# Altium footprint library PCIE.PcbLib: 2 footprints
Each footprint in its own frame and in the unit in brackets; x right, y up, seen from the top. Pads: shape width x height; smd on the part's side, far side on the other; paste and mask are expansions set on the pad; w line width, h text height; cw(c..) or ccw(c..) is an arc to the next point about the centre after c.
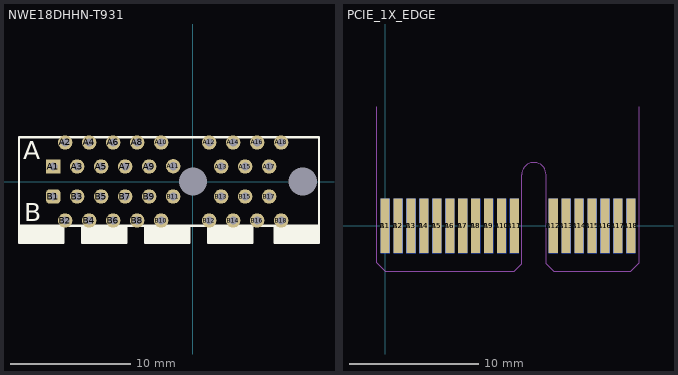
[diagram p0: the footprints below, top view; thin cyan lines are the x and y axes]

## NWE18DHHN-T931 [mm] "Sullins PCIe 1x through hole"
pads (38):
  rect 1.2x1.2 hole 0.7: A1(-11.65,1.25)
  round 1.2 hole 0.7: A2(-10.65,3.25) A3(-9.65,1.25) A4(-8.65,3.25) A5(-7.65,1.25) A6(-6.65,3.25) A7(-5.65,1.25) A8(-4.65,3.25) A9(-3.65,1.25) A10(-2.65,3.25) A11(-1.65,1.27) A12(1.35,3.25) A13(2.35,1.25) A14(3.35,3.25) A15(4.35,1.25) A16(5.35,3.25) A17(6.35,1.25) A18(7.35,3.25) B2(-10.65,-3.25) B3(-9.65,-1.25) B4(-8.65,-3.25) B5(-7.65,-1.25) B6(-6.65,-3.25) B7(-5.65,-1.25) B8(-4.65,-3.25) B9(-3.65,-1.25) B10(-2.65,-3.25) B11(-1.65,-1.25) B12(1.35,-3.25) B13(2.35,-1.25) B14(3.35,-3.25) B15(4.35,-1.25) B16(5.35,-3.25) B17(6.35,-1.25) B18(7.35,-3.25)
  rrect50% 1.2x1.2 hole 0.7: B1(-11.65,-1.25)
  round 0 hole 2.35 unplated: ""(0,0) ""(9.15,0)
Top Overlay:
  rectangle: -14.5,-5.1 -10.8,-3.7
  rectangle: -9.25,-5.1 -5.525,-3.7
  rectangle: -4,-5.1 -0.3,-3.7
  rectangle: 1.25,-5.1 4.975,-3.7
  rectangle: 6.8,-5.1 10.5,-3.7
  lines w0.203: -10.8,-3.7 -10.8,-5.1 -14.5,-5.1 -14.5,-3.7 ; -9.25,-3.7 -9.25,-5.1 -5.55,-5.1 -5.55,-3.7 ; -4,-3.7 -4,-5.1 -0.3,-5.1 -0.3,-3.7 ; 1.25,-3.7 1.25,-5.1 4.95,-5.1 4.95,-3.7 ; 6.8,-3.7 6.8,-5.1 10.5,-5.1 10.5,-3.7 ; -14.5,-3.7 10.5,-3.7 ; -14.5,-3.7 -14.5,0 -14.5,3.7 10.5,3.7 10.5,-3.7
  text "B" at -14.05,-3.325 h1.52
  text "A" at -14.125,1.85 h1.52

## PCIE_1X_EDGE [mm]
pads (36):
  rect 0.7x4.2 smd far side: A1(0,0) A2(1,0) A3(2,0) A4(3,0) A5(4,0) A6(5,0) A7(6,0) A8(7,0) A9(8,0) A10(9,0) A11(10,0) A12(13,0) A13(14,0) A14(15,0) A15(16,0) A16(17,0) A17(18,0) A18(19,0)
  rect 0.7x4.2 smd: B1(0,0) B2(1,0) B3(2,0) B4(3,0) B5(4,0) B6(5,0) B7(6,0) B8(7,0) B9(8,0) B10(9,0) B11(10,0) B12(13,0) B13(14,0) B14(15,0) B15(16,0) B16(17,0) B17(18,0) B18(19,0)
Top Solder:
  region: 13.025,-3.5 19,-3.5 19.65,-2.85 19.65,2.2 12.45,2.2 12.45,-2.925
  region: -0.65,2.2 10.55,2.2 10.55,-2.95 10,-3.5 0,-3.5 -0.65,-2.85
Bottom Solder:
  region: 13.025,-3.5 19,-3.5 19.65,-2.85 19.65,2.225 12.45,2.225 12.45,-2.925
  region: 0,-3.5 10,-3.5 10.575,-2.95 10.575,2.2 -0.65,2.2 -0.65,-2.85
Mechanical 1:
  lines w0.01: -0.65,9.2 -0.65,-2.85 0,-3.5 10,-3.5 10.55,-2.95 ; 10.55,-2.949 10.55,3.95 cw(c11.5,3.95) 12.45,3.95 12.45,-2.925 13.025,-3.5 19,-3.5 19.65,-2.85 19.65,9.2